# Altium footprint library Varistor.PcbLib: 1 footprints
Each footprint in its own frame and in the unit in brackets; x right, y up, seen from the top. Pads: shape width x height; smd on the part's side, far side on the other; paste and mask are expansions set on the pad; w line width, h text height; cw(c..) or ccw(c..) is an arc to the next point about the centre after c.
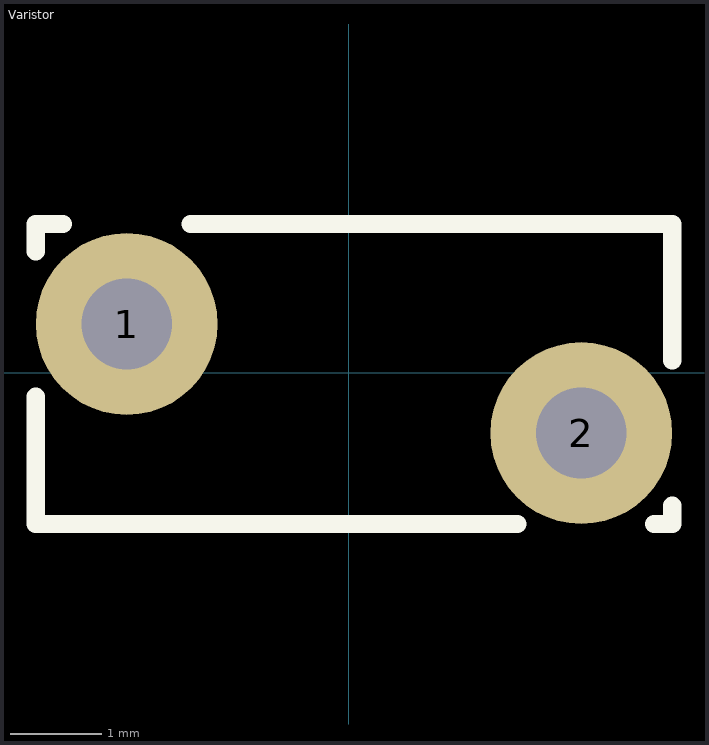
[diagram p0: the footprint, top view; thin cyan lines are the x and y axes]

## Varistor [mm]
pads (2):
  round 2 hole 1: 1(-2.442,0.535) 2(2.558,-0.665)
Top Overlay:
  lines w0.2: -3.442,-0.265 -3.442,-1.665 1.858,-1.665 ; -3.442,1.335 -3.442,1.635 -3.142,1.635 ; -1.742,1.635 3.558,1.635 3.558,0.135 ; 3.358,-1.665 3.558,-1.665 3.558,-1.465
3D body "User Library-SIOV-S Varistor.step": height 8.5, standoff -2.5, extent -3.44,-1.715 3.554,1.585